# Altium footprint library LineFollowerSensor.PcbLib: 4 footprints
Each footprint in its own frame and in the unit in brackets; x right, y up, seen from the top. Pads: shape width x height; smd on the part's side, far side on the other; paste and mask are expansions set on the pad; w line width, h text height; cw(c..) or ccw(c..) is an arc to the next point about the centre after c.
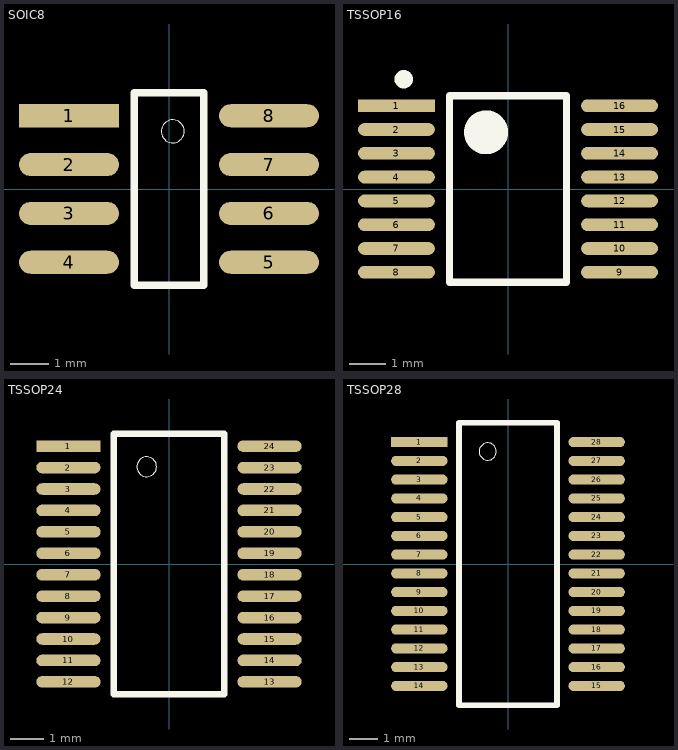
[diagram p0: the footprints below, top view; thin cyan lines are the x and y axes]

## SOIC8 [mm] "SOIC, 8-Leads, Body 5,0x4,0mm (max), Pitch 1,27mm, IPC Medium Density"
height 1.75
pads (8):
  rect 2.6x0.6 smd: 1(-2.6,1.905)
  oval 2.6x0.6 smd: 2(-2.6,0.635) 3(-2.6,-0.635) 4(-2.6,-1.905) 5(2.6,-1.905) 6(2.6,-0.635) 7(2.6,0.635) 8(2.6,1.905)
Top Overlay:
  circle w0: c0.1,1.5 r0.3
  lines w0.2: -0.9,-2.5 0.9,-2.5 0.9,2.5 -0.9,2.5 -0.9,-2.5
3D body: height 1.75, standoff 0, extent -3.006,-2.5 3.006,2.5

## TSSOP16 [mm] "TSOP, 16-Leads, Body 5,1x4,5mm (max), Pitch 0,65mm, IPC Medium Density"
height 1.2
pads (16):
  rect 2.1x0.35 smd: 1(-3.05,2.275)
  oval 2.1x0.35 smd: 2(-3.05,1.625) 3(-3.05,0.975) 4(-3.05,0.325) 5(-3.05,-0.325) 6(-3.05,-0.975) 7(-3.05,-1.625) 8(-3.05,-2.275) 9(3.05,-2.275) 10(3.05,-1.625) 11(3.05,-0.975) 12(3.05,-0.325) 13(3.05,0.325) 14(3.05,0.975) 15(3.05,1.625) 16(3.05,2.275)
Top Overlay:
  circle w0.25: c-2.85,3 r0.125
  circle w0.6: c-0.6,1.55 r0.3
  lines w0.2: -1.6,-2.55 -1.6,2.55 1.6,2.55 1.6,-2.55 -1.6,-2.55
3D body: height 1.35, standoff 0, extent -3.228,-2.55 3.228,2.55

## TSSOP24 [mm] "TSOP, 24-Leads, Body 7,9x4,5mm (max), Pitch 0,65mm, IPC Medium Density"
height 1.1
pads (24):
  rect 1.95x0.35 smd: 1(-3.05,3.575)
  oval 1.95x0.35 smd: 2(-3.05,2.925) 3(-3.05,2.275) 4(-3.05,1.625) 5(-3.05,0.975) 6(-3.05,0.325) 7(-3.05,-0.325) 8(-3.05,-0.975) 9(-3.05,-1.625) 10(-3.05,-2.275) 11(-3.05,-2.925) 12(-3.05,-3.575) 13(3.05,-3.575) 14(3.05,-2.925) 15(3.05,-2.275) 16(3.05,-1.625) 17(3.05,-0.975) 18(3.05,-0.325) 19(3.05,0.325) 20(3.05,0.975) 21(3.05,1.625) 22(3.05,2.275) 23(3.05,2.925) 24(3.05,3.575)
Top Overlay:
  circle w0: c-0.675,2.95 r0.3
  lines w0.2: -1.675,-3.95 1.675,-3.95 1.675,3.95 -1.675,3.95 -1.675,-3.95
3D body: height 1.25, standoff 0, extent -3.228,-3.95 3.228,3.95

## TSSOP28 [mm] "TSOP, 28-Leads, Body 9,8x4,5mm (max), Pitch 0,65mm, IPC Medium Density"
height 1.2
pads (28):
  rect 1.95x0.35 smd: 1(-3.075,4.225)
  oval 1.95x0.35 smd: 2(-3.075,3.575) 3(-3.075,2.925) 4(-3.075,2.275) 5(-3.075,1.625) 6(-3.075,0.975) 7(-3.075,0.325) 8(-3.075,-0.325) 9(-3.075,-0.975) 10(-3.075,-1.625) 11(-3.075,-2.275) 12(-3.075,-2.925) 13(-3.075,-3.575) 14(-3.075,-4.225) 15(3.075,-4.225) 16(3.075,-3.575) 17(3.075,-2.925) 18(3.075,-2.275) 19(3.075,-1.625) 20(3.075,-0.975) 21(3.075,-0.325) 22(3.075,0.325) 23(3.075,0.975) 24(3.075,1.625) 25(3.075,2.275) 26(3.075,2.925) 27(3.075,3.575) 28(3.075,4.225)
Top Overlay:
  circle w0: c-0.7,3.9 r0.3
  lines w0.2: -1.7,-4.9 -1.7,4.9 1.7,4.9 1.7,-4.9 -1.7,-4.9
3D body: height 1.35, standoff 0, extent -3.228,-4.9 3.228,4.9